# Altium footprint library FUSE.PcbLib: 3 footprints
Each footprint in its own frame and in the unit in brackets; x right, y up, seen from the top. Pads: shape width x height; smd on the part's side, far side on the other; paste and mask are expansions set on the pad; w line width, h text height; cw(c..) or ccw(c..) is an arc to the next point about the centre after c.
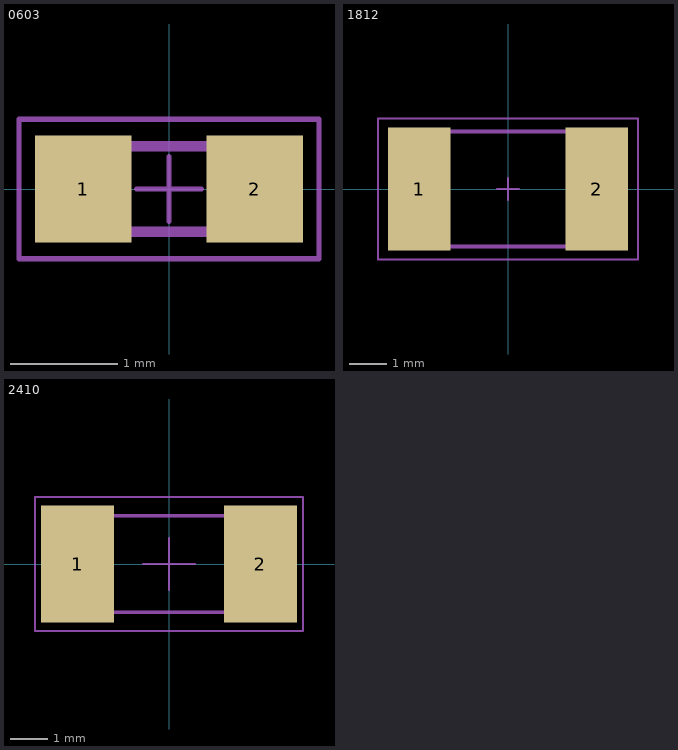
[diagram p0: the footprints below, top view; thin cyan lines are the x and y axes]

## 0603 [mm]
pads (2):
  rect 0.9x1 smd: 1(-0.8,0) 2(0.8,0)
Mechanical 14:
  lines w0.1: -0.85,-0.4 0.85,-0.4 0.85,0.4 -0.85,0.4 -0.85,-0.4
  text ".Designator" at -0.7,-0.2 h0.4
Mechanical 15:
  lines w0.05: -0.3,0 0.3,0 ; 0,-0.3 0,0.3 ; -1.4,-0.65 1.4,-0.65 1.4,0.65 -1.4,0.65 -1.4,-0.65
3D body "ptc06032-1.step": height 0.75, standoff 0, extent -0.8,-0.375 0.8,0.375

## 1812 [mm]
pads (2):
  rect 1.68x3.3 smd: 1(-2.39,0) 2(2.39,0)
Mechanical 14:
  lines w0.1: -2.2,-1.55 -2.2,1.55 2.2,1.55 2.2,-1.55 -2.2,-1.55
  text ".Designator" at -1,-0.4 h0.8
Mechanical 15:
  lines w0.05: -0.3,0 0.3,0 ; 0,-0.3 0,0.3 ; -3.5,-1.9 3.5,-1.9 3.5,1.9 -3.5,1.9 -3.5,-1.9
3D body "0ZCG-0_70mm_fuse.step": height 1.53, standoff -0.02, extent -2.25,-1.6 2.25,1.6

## 2410 [mm] "0679L"
height 1.2
pads (2):
  rect 1.96x3.15 smd: 1(-2.455,0) 2(2.455,0)
Mechanical 14:
  lines w0.1: -1.8,-1.3 -1.8,1.3 ; 1.8,-1.3 1.8,1.3 ; -3.1,-1.3 3.1,-1.3 3.1,1.3 -3.1,1.3 -3.1,-1.3
  text ".Designator" at -0.7,-0.2 h0.6
Mechanical 15:
  lines w0.05: -0.7,0 0.7,0 ; 0,-0.7 0,0.7 ; -3.6,-1.8 3.6,-1.8 3.6,1.8 -3.6,1.8 -3.6,-1.8
3D body: height 2.7, standoff 0.1, extent -3,-1.292 -1,1.297
3D body: height 2.7, standoff 0.1, extent -2.9,-1.298 3.1,1.292
3D body: height 2.7, standoff 0.1, extent 1,-1.297 3,1.292